# EAGLE library part DS09 (library innove-dip-switches)
DIL/CODE SWITCH
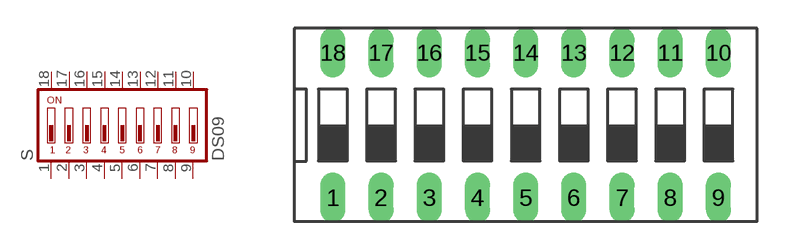
[diagram p6: symbol with the pads of DS-09; footprint DS-09]

Designator prefix S

## DS09 (MPN: MCDS09; OC_FARNELL: 1255227; OC_NEWARK: 26M1107)  [DS-09]
1  1  pas
2  2  pas
3  3  pas
4  4  pas
5  5  pas
6  6  pas
7  7  pas
8  8  pas
9  9  pas
10  10  pas
11  11  pas
12  12  pas
13  13  pas
14  14  pas
15  15  pas
16  16  pas
17  17  pas
18  18  pas

## Footprint DS-09 (pad centres in mm)
DIL/CODE SWITCH Mors distributor Buerklin, 17G564
drill 0.813 long: 1 -10.16,-3.81; 2 -7.62,-3.81; 3 -5.08,-3.81; 4 -2.54,-3.81; 5 0,-3.81; 6 2.54,-3.81; 7 5.08,-3.81; 8 7.62,-3.81; 9 10.16,-3.81; 10 10.16,3.81; 11 7.62,3.81; 12 5.08,3.81; 13 2.54,3.81; 14 0,3.81; 15 -2.54,3.81; 16 -5.08,3.81; 17 -7.62,3.81; 18 -10.16,3.81